# EAGLE library part ATTINY13A_MMU (library avr)
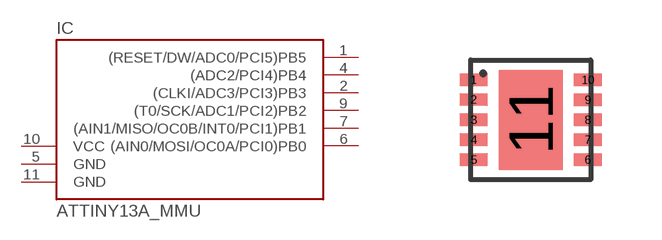
[diagram p82: symbol with the pads of Q10N; footprint Q10N]

Designator prefix IC

## ATTINY13A_MMU  [Q10N]
1  (RESET/DW/ADC0/PCI5)PB5
2  (CLKI/ADC3/PCI3)PB3
4  (ADC2/PCI4)PB4
5  GND  pwr
6  (AIN0/MOSI/OC0A/PCI0)PB0
7  (AIN1/MISO/OC0B/INT0/PCI1)PB1
9  (T0/SCK/ADC1/PCI2)PB2
10  VCC  pwr
11  GND  pwr

## Footprint Q10N (pad centres in mm)
smd 0.7 x 0.305: 1 -1.43,1; 2 -1.43,0.51; 3 -1.43,0; 4 -1.43,-0.5; 5 -1.43,-1; 6 1.43,-1; 7 1.43,-0.5; 8 1.43,0; 9 1.43,0.5; 10 1.43,1
smd 1.6 x 2.5: 11 0,0